# EAGLE library part GP2Y1010AU0F (library sharp-dust-sensor)
GP2Y1010AU0F -Optical Dust Sensor Technical Specifications: VCC: 4.5-5.5V Operating Temperature: -20°C to 65°C Digikey: 1855-1012-ND Mouser: 852-GP2Y1010AU0F
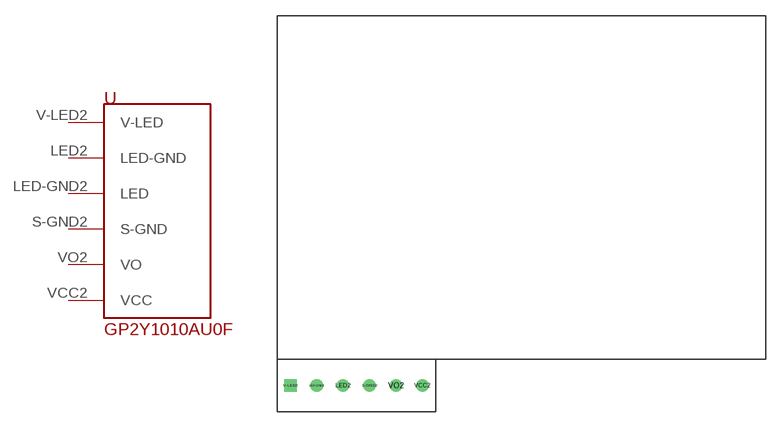
[diagram p1: symbol with the pads of GP2Y1010AU0F; footprint GP2Y1010AU0F]

Designator prefix -

## GP2Y1010AU0F  [GP2Y1010AU0F]
LED2  LED-GND
LED-GND2  LED
S-GND2  S-GND
V-LED2  V-LED
VCC2  VCC
VO2  VO

## Footprint GP2Y1010AU0F (pad centres in mm)
drill 0.7: LED2 -17.78,-19.05; LED-GND2 -20.32,-19.05; S-GND2 -15.24,-19.05; VCC2 -10.16,-19.05; VO2 -12.7,-19.05
drill 0.7 square: V-LED2 -22.86,-19.05